# EAGLE library part REF192GSZ (library 0_analog-devices)
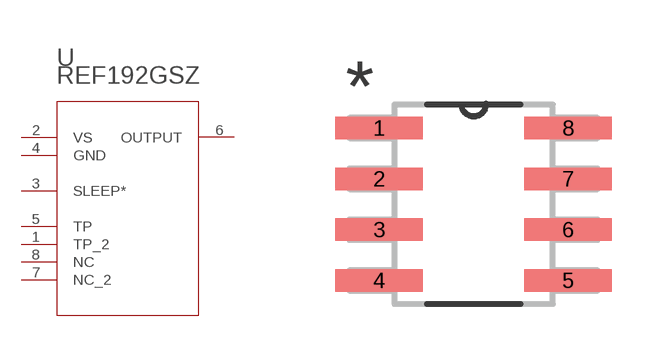
[diagram p3: symbol with the pads of R_8; footprint R_8]

Designator prefix U

## REF192GSZ (MANUFACTURER_PART_NUMBER: REF192GSZREEL; VENDOR: Vendor)  [R_8]
1  TP_2  pas
2  VS  pwr
3  SLEEP*  pas
4  GND  pas
5  TP  pas
6  OUTPUT  pas
7  NC_2  pas
8  NC  pas

## Footprint R_8 (pad centres in mm)
smd 2.184 x 0.559: 1 -2.362,1.905; 2 -2.362,0.635; 3 -2.362,-0.635; 4 -2.362,-1.905; 5 2.362,-1.905; 6 2.362,-0.635; 7 2.362,0.635; 8 2.362,1.905